# Altium footprint library EATON _HCM1A1307V2-220-R.PcbLib: 1 footprints
Each footprint in its own frame and in the unit in brackets; x right, y up, seen from the top. Pads: shape width x height; smd on the part's side, far side on the other; paste and mask are expansions set on the pad; w line width, h text height; cw(c..) or ccw(c..) is an arc to the next point about the centre after c.
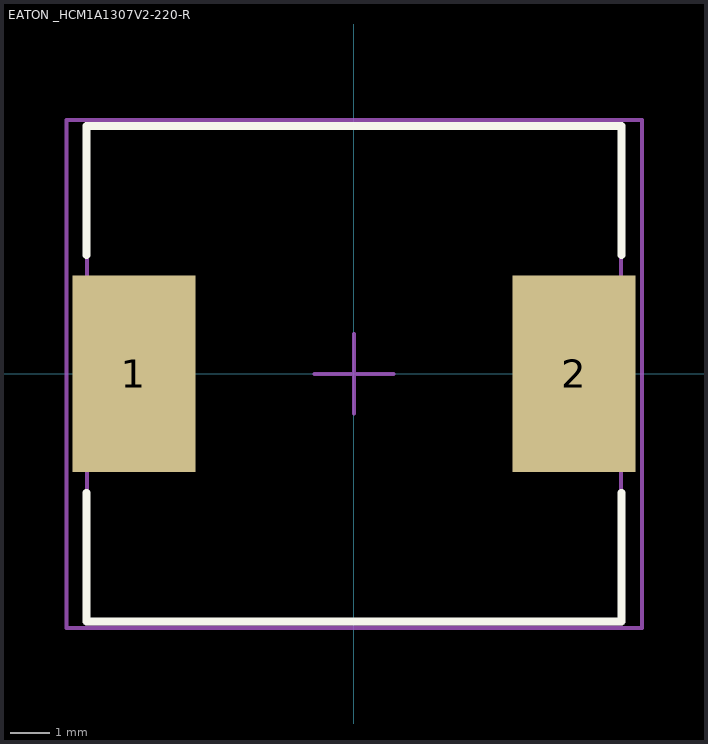
[diagram p0: the footprint, top view; thin cyan lines are the x and y axes]

## EATON _HCM1A1307V2-220-R [mm] "FIXED IND 22UH 6A 33.1 mOHM SMD"
pads (2):
  rect 3.1x4.95 smd: 1(-5.55,0) 2(5.55,0)
Top Overlay:
  lines w0.2: -6.75,-3 -6.75,-6.25 6.75,-6.25 6.75,-3 ; -6.75,3 -6.75,6.25 6.75,6.25 6.75,3
Mechanical 13:
  lines w0.1: -6.73,-6.3 -6.73,6.3 6.73,6.3 6.73,-6.3 -6.73,-6.3
Mechanical 15:
  lines w0.1: -1,0 1,0 ; 0,-1 0,1 ; -7.25,-6.409 -7.25,6.401 7.267,6.401 7.267,-6.409 -7.25,-6.409
3D body "HCM1A1307V2-560-R.STEP": height 6.4, standoff -0.1, extent -6.725,-6.3 6.725,6.3